# Altium footprint library A000005.PcbLib: 1 footprints
Each footprint in its own frame and in the unit in brackets; x right, y up, seen from the top. Pads: shape width x height; smd on the part's side, far side on the other; paste and mask are expansions set on the pad; w line width, h text height; cw(c..) or ccw(c..) is an arc to the next point about the centre after c.
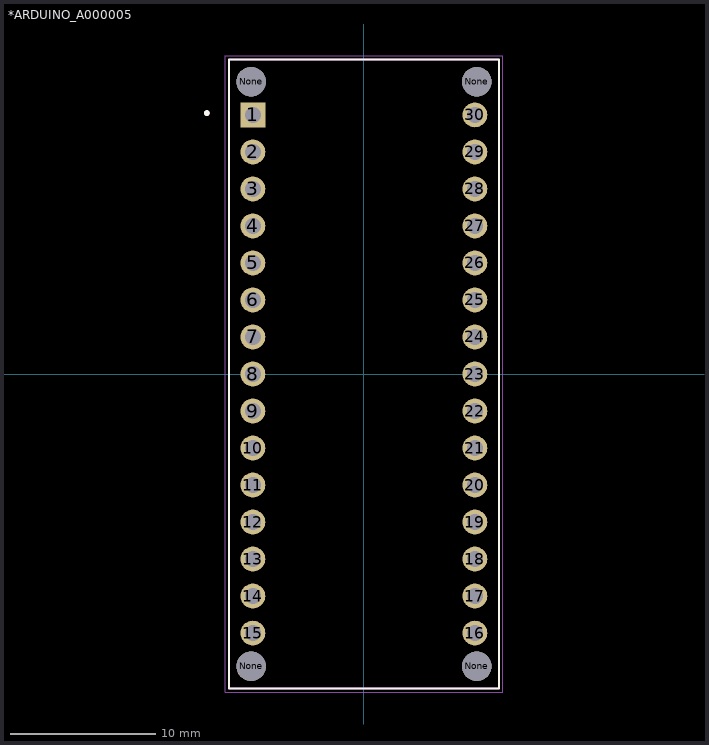
[diagram p0: the footprint, top view; thin cyan lines are the x and y axes]

## *ARDUINO_A000005 [mm]
pads (34):
  rect 1.7x1.7 hole 1.1: 1(-7.62,17.78)
  round 1.7 hole 1.1: 2(-7.62,15.24) 3(-7.62,12.7) 4(-7.62,10.16) 5(-7.62,7.62) 6(-7.62,5.08) 7(-7.62,2.54) 8(-7.62,0) 9(-7.62,-2.54) 10(-7.62,-5.08) 11(-7.62,-7.62) 12(-7.62,-10.16) 13(-7.62,-12.7) 14(-7.62,-15.24) 15(-7.62,-17.78) 16(7.62,-17.78) 17(7.62,-15.24) 18(7.62,-12.7) 19(7.62,-10.16) 20(7.62,-7.62) 21(7.62,-5.08) 22(7.62,-2.54) 23(7.62,0) 24(7.62,2.54) 25(7.62,5.08) 26(7.62,7.62) 27(7.62,10.16) 28(7.62,12.7) 29(7.62,15.24) 30(7.62,17.78)
  round 2.028 hole 2.028 unplated: None(-7.747,-20.066) None(-7.747,20.066) None(7.747,-20.066) None(7.747,20.066)
Top Overlay:
  circle w0.2: c-10.78,17.91 r0.1
  lines w0.127: -9.271,-21.59 -9.271,21.59 9.271,21.59 9.271,-21.59 -9.271,-21.59
Mechanical 4:
  circle w0.2: c-10.78,17.9 r0.1
  circle w0.2: c-10.78,17.9 r0.1
  lines w0.127: -9.271,-21.59 9.271,-21.59 ; -9.271,-21.59 -9.271,21.59 ; -9.271,-21.59 9.271,-21.59 ; -9.271,-21.59 -9.271,21.59 ; -9.271,21.59 9.271,21.59 ; -9.271,21.59 9.271,21.59 ; 9.271,-21.59 9.271,21.59 ; 9.271,-21.59 9.271,21.59
Mechanical 16:
  lines w0.05: -9.521,-21.84 -9.521,21.84 9.521,21.84 9.521,-21.84 -9.521,-21.84